# Altium schematic symbol library FK743M5-XIH6 模块-原理图库.SchLib: 1 symbol
Pins are listed as number, name and electrical type; pins without a type are passive.

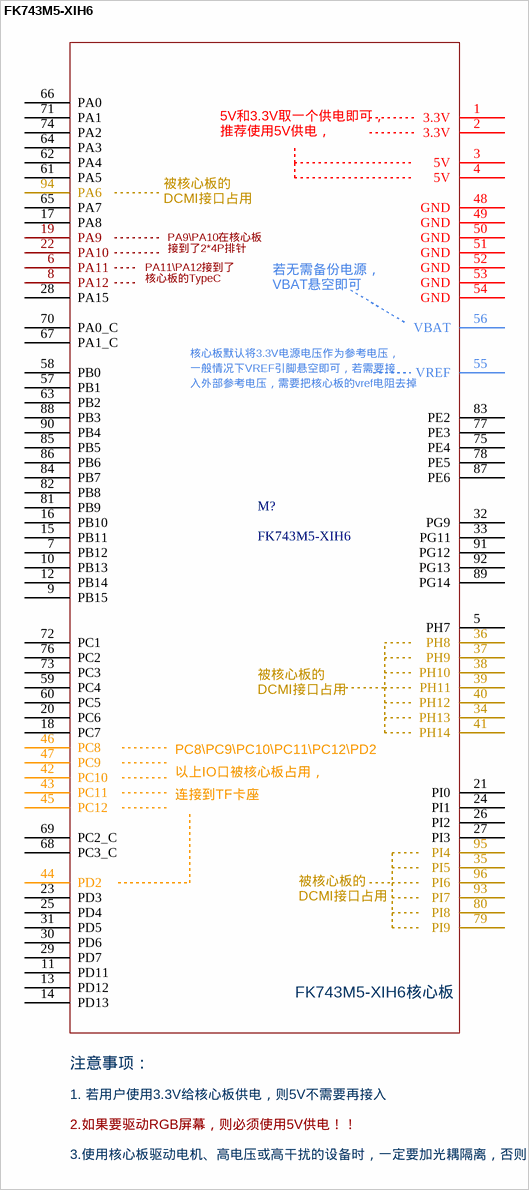
[diagram p0: symbol FK743M5-XIH6]

## FK743M5-XIH6
designator M?
footprint FK743M5-XIH6
pins: 1 3.3V, 2 3.3V, 3 5V, 4 5V, 5 PH7, 6 PA11, 7 PB12, 8 PA12, 9 PB15, 10 PB13, 11 PD11, 12 PB14, 13 PD12, 14 PD13, 15 PB11, 16 PB10, 17 PA8, 18 PC7, 19 PA9, 20 PC6, 21 PI0, 22 PA10, 23 PD3, 24 PI1, 25 PD4, 26 PI2, 27 PI3, 28 PA15, 29 PD7, 30 PD6, 31 PD5, 32 PG9, 33 PG11, 34 PH13, 35 PI5, 36 PH8, 37 PH9, 38 PH10, 39 PH11, 40 PH12, 41 PH14, 42 PC10, 43 PC11, 44 PD2, 45 PC12, 46 PC8, 47 PC9, 48 GND, 49 GND, 50 GND, 51 GND, 52 GND, 53 GND, 54 GND, 55 VREF, 56 VBAT, 57 PB1, 58 PB0, 59 PC4, 60 PC5, 61 PA5, 62 PA4, 63 PB2, 64 PA3, 65 PA7, 66 PA0, 67 PA1_C, 68 PC3_C, 69 PC2_C, 70 PA0_C, 71 PA1, 72 PC1, 73 PC3, 74 PA2, 75 PE4, 76 PC2, 77 PE3, 78 PE5, 79 PI9, 80 PI8, 81 PB9, 82 PB8, 83 PE2, 84 PB7, 85 PB5, 86 PB6, 87 PE6, 88 PB3, 89 PG14, 90 PB4, 91 PG12, 92 PG13, 93 PI7, 94 PA6, 95 PI4, 96 PI6
text: 5V和3.3V取一个供电即可，; 推荐使用5V供电，; 被核心板的; DCMI接口占用; PA9\PA10在核心板; 接到了2*4P排针; PA11\PA12接到了; 核心板的TypeC; 若无需备份电源，; VBAT悬空即可; 核心板默认将3.3V电源电压作为参考电压，; 一般情况下VREF引脚悬空即可，若需要接; 入外部参考电压，需要把核心板的vref电阻去掉; PC8\PC9\PC10\PC11\PC12\PD2; 以上IO口被核心板占用，; 连接到TF卡座; FK743M5-XIH6核心板; 注意事项：; 1. 若用户使用3.3V给核心板供电，则5V不需要再接入; 2.如果要驱动RGB屏幕，则必须使用5V供电！！; 3.使用核心板驱动电机、高电压或高干扰的设备时，一定要加光耦隔离，否则很容易损坏单片机！！！